# Altium schematic symbol library CSS-73B16K-SMT.Schlib: 1 symbol
Pins are listed as number, name and electrical type; pins without a type are passive.

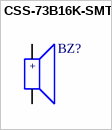
[diagram p0: symbol CSS-73B16K-SMT]

## CSS-73B16K-SMT
designator BZ?
pins: 1, 2, 3, 4
text: +